# Altium schematic symbol library STM8TL53G4U6TR.Schlib: 1 symbol
Pins are listed as number, name and electrical type; pins without a type are passive.

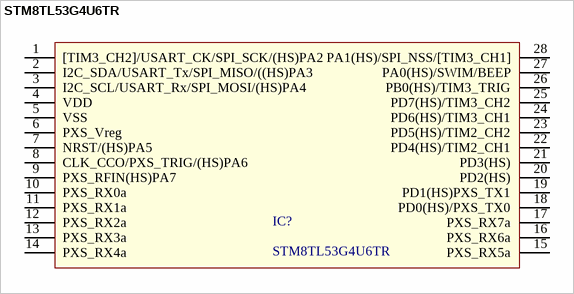
[diagram p0: symbol STM8TL53G4U6TR]

## STM8TL53G4U6TR
designator IC?
8-bit Microcontrollers - MCU 8-bit Ultra-Low PWR 16kB ProxSense SPI
pins: 1 [TIM3_CH2]/USART_CK/SPI_SCK/(HS)PA2, 2 I2C_SDA/USART_Tx/SPI_MISO/((HS)PA3, 3 I2C_SCL/USART_Rx/SPI_MOSI/(HS)PA4, 4 VDD, 5 VSS, 6 PXS_Vreg, 7 NRST/(HS)PA5, 8 CLK_CCO/PXS_TRIG/(HS)PA6, 9 PXS_RFIN(HS)PA7, 10 PXS_RX0a, 11 PXS_RX1a, 12 PXS_RX2a, 13 PXS_RX3a, 14 PXS_RX4a, 15 PXS_RX5a, 16 PXS_RX6a, 17 PXS_RX7a, 18 PD0(HS)/PXS_TX0, 19 PD1(HS)PXS_TX1, 20 PD2(HS), 21 PD3(HS), 22 PD4(HS)/TIM2_CH1, 23 PD5(HS)/TIM2_CH2, 24 PD6(HS)/TIM3_CH1, 25 PD7(HS)/TIM3_CH2, 26 PB0(HS)/TIM3_TRIG, 27 PA0(HS)/SWIM/BEEP, 28 PA1(HS)/SPI_NSS/[TIM3_CH1]